# EAGLE library part STM32F432KBU6 (library stmf3)
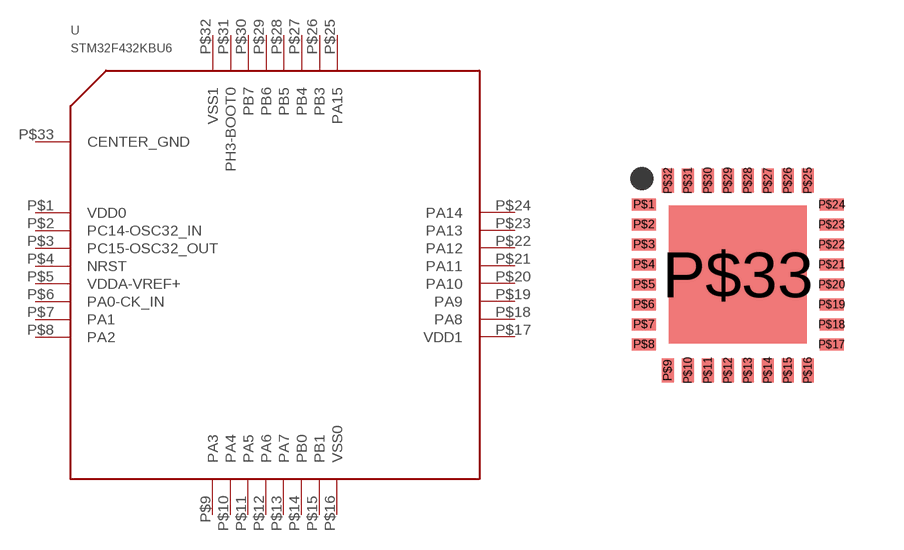
[diagram p2: symbol with the pads of UFQFPN32; footprint UFQFPN32]

Designator prefix -

## STM32F432KBU6  [UFQFPN32]
P$1  VDD0
P$2  PC14-OSC32_IN
P$3  PC15-OSC32_OUT
P$4  NRST
P$5  VDDA-VREF+
P$6  PA0-CK_IN
P$7  PA1
P$8  PA2
P$9  PA3
P$10  PA4
P$11  PA5
P$12  PA6
P$13  PA7
P$14  PB0
P$15  PB1
P$16  VSS0
P$17  VDD1
P$18  PA8
P$19  PA9
P$20  PA10
P$21  PA11
P$22  PA12
P$23  PA13
P$24  PA14
P$25  PA15
P$26  PB3
P$27  PB4
P$28  PB5
P$29  PB6
P$30  PB7
P$31  PH3-BOOT0
P$32  VSS1
P$33  CENTER_GND

## Footprint UFQFPN32 (pad centres in mm)
smd 0.6 x 0.3: P$1 0.3,-0.15; P$2 0.3,-0.65; P$3 0.3,-1.15; P$4 0.3,-1.65; P$5 0.3,-2.15; P$6 0.3,-2.65; P$7 0.3,-3.15; P$8 0.3,-3.65; P$17 5,-3.65; P$18 5,-3.15; P$19 5,-2.65; P$20 5,-2.15; P$21 5,-1.65; P$22 5,-1.15; P$23 5,-0.65; P$24 5,-0.15
smd 0.3 x 0.6: P$9 0.9,-4.3; P$10 1.4,-4.3; P$11 1.9,-4.3; P$12 2.4,-4.3; P$13 2.9,-4.3; P$14 3.4,-4.3; P$15 3.9,-4.3; P$16 4.4,-4.3; P$25 4.4,0.45; P$26 3.9,0.45; P$27 3.4,0.45; P$28 2.9,0.45; P$29 2.4,0.45; P$30 1.9,0.45; P$31 1.4,0.45; P$32 0.9,0.45
smd 3.45 x 3.45: P$33 2.65,-1.9